# EAGLE library part TRINAMIC-TMC262 (library FlashPCB_ICs)
The TMC262 driver for two-phase stepper motors offers an industry-leading feature set, including high-resolution microstepping, sensorless mechanical load measurement, load-adaptive power optimization, and low-resonance chopper operation. Standard SPIÃƒÆ’Ã†â€™Ãƒâ€ Ã¢â‚¬â„¢ÃƒÆ’Ã¢â‚¬Â ÃƒÂ¢Ã¢â€šÂ¬Ã¢â€žÂ¢ÃƒÆ’Ã†â€™ÃƒÂ¢Ã¢â€šÂ¬Ã‚Â ÃƒÆ’Ã‚Â¢ÃƒÂ¢Ã¢â‚¬Å¡Ã‚Â¬ÃƒÂ¢Ã¢â‚¬Å¾Ã‚Â¢ÃƒÆ’Ã†â€™Ãƒâ€ Ã¢â‚¬â„¢ÃƒÆ’Ã‚Â¢ÃƒÂ¢Ã¢â‚¬Å¡Ã‚Â¬Ãƒâ€šÃ‚Â ÃƒÆ’Ã†â€™Ãƒâ€šÃ‚Â¢ÃƒÆ’Ã‚Â¢ÃƒÂ¢Ã¢â€šÂ¬Ã…Â¡Ãƒâ€šÃ‚Â¬ÃƒÆ’Ã‚Â¢ÃƒÂ¢Ã¢â€šÂ¬Ã…Â¾Ãƒâ€šÃ‚Â¢ÃƒÆ’Ã†â€™Ãƒâ€ Ã¢â‚¬â„¢ÃƒÆ’Ã¢â‚¬Â ÃƒÂ¢Ã¢â€šÂ¬Ã¢â€žÂ¢ÃƒÆ’Ã†â€™Ãƒâ€šÃ‚Â¢ÃƒÆ’Ã‚Â¢ÃƒÂ¢Ã¢â€šÂ¬Ã…Â¡Ãƒâ€šÃ‚Â¬ÃƒÆ’Ã¢â‚¬Â¦Ãƒâ€šÃ‚Â¡ÃƒÆ’Ã†â€™Ãƒâ€ Ã¢â‚¬â„¢ÃƒÆ’Ã‚Â¢ÃƒÂ¢Ã¢â‚¬Å¡Ã‚Â¬Ãƒâ€¦Ã‚Â¡ÃƒÆ’Ã†â€™ÃƒÂ¢Ã¢â€šÂ¬Ã…Â¡ÃƒÆ’Ã¢â‚¬Å¡Ãƒâ€šÃ‚Â¢ÃƒÆ’Ã†â€™Ãƒâ€ Ã¢â‚¬â„¢ÃƒÆ’Ã¢â‚¬Â ÃƒÂ¢Ã¢â€šÂ¬Ã¢â€žÂ¢ÃƒÆ’Ã†â€™ÃƒÂ¢Ã¢â€šÂ¬Ã‚Â ÃƒÆ’Ã‚Â¢ÃƒÂ¢Ã¢â‚¬Å¡Ã‚Â¬ÃƒÂ¢Ã¢â‚¬Å¾Ã‚Â¢ÃƒÆ’Ã†â€™Ãƒâ€ Ã¢â‚¬â„¢ÃƒÆ’Ã‚Â¢ÃƒÂ¢Ã¢â‚¬Å¡Ã‚Â¬Ãƒâ€¦Ã‚Â¡ÃƒÆ’Ã†â€™ÃƒÂ¢Ã¢â€šÂ¬Ã…Â¡ÃƒÆ’Ã¢â‚¬Å¡Ãƒâ€šÃ‚Â¢ÃƒÆ’Ã†â€™Ãƒâ€ Ã¢â‚¬â„¢ÃƒÆ’Ã¢â‚¬Â ÃƒÂ¢Ã¢â€šÂ¬Ã¢â€žÂ¢ÃƒÆ’Ã†â€™ÃƒÂ¢Ã¢â€šÂ¬Ã…Â¡ÃƒÆ’Ã¢â‚¬Å¡Ãƒâ€šÃ‚Â¢ÃƒÆ’Ã†â€™Ãƒâ€ Ã¢â‚¬â„¢ÃƒÆ’Ã¢â‚¬Å¡Ãƒâ€šÃ‚Â¢ÃƒÆ’Ã†â€™Ãƒâ€šÃ‚Â¢ÃƒÆ’Ã‚Â¢ÃƒÂ¢Ã¢â‚¬Å¡Ã‚Â¬Ãƒâ€¦Ã‚Â¡ÃƒÆ’Ã¢â‚¬Å¡Ãƒâ€šÃ‚Â¬ÃƒÆ’Ã†â€™ÃƒÂ¢Ã¢â€šÂ¬Ã‚Â¦ÃƒÆ’Ã¢â‚¬Å¡Ãƒâ€šÃ‚Â¡ÃƒÆ’Ã†â€™Ãƒâ€ Ã¢â‚¬â„¢ÃƒÆ’Ã‚Â¢ÃƒÂ¢Ã¢â‚¬Å¡Ã‚Â¬Ãƒâ€¦Ã‚Â¡ÃƒÆ’Ã†â€™ÃƒÂ¢Ã¢â€šÂ¬Ã…Â¡ÃƒÆ’Ã¢â‚¬Å¡Ãƒâ€šÃ‚Â¬ÃƒÆ’Ã†â€™Ãƒâ€ Ã¢â‚¬â„¢ÃƒÆ’Ã¢â‚¬Â ÃƒÂ¢Ã¢â€šÂ¬Ã¢â€žÂ¢ÃƒÆ’Ã†â€™Ãƒâ€šÃ‚Â¢ÃƒÆ’Ã‚Â¢ÃƒÂ¢Ã¢â€šÂ¬Ã…Â¡Ãƒâ€šÃ‚Â¬ÃƒÆ’Ã¢â‚¬Å¡Ãƒâ€šÃ‚Â¦ÃƒÆ’Ã†â€™Ãƒâ€ Ã¢â‚¬â„¢ÃƒÆ’Ã‚Â¢ÃƒÂ¢Ã¢â‚¬Å¡Ã‚Â¬Ãƒâ€¦Ã‚Â¡ÃƒÆ’Ã†â€™ÃƒÂ¢Ã¢â€šÂ¬Ã…Â¡ÃƒÆ’Ã¢â‚¬Å¡Ãƒâ€šÃ‚Â¾ÃƒÆ’Ã†â€™Ãƒâ€ Ã¢â‚¬â„¢ÃƒÆ’Ã¢â‚¬Â ÃƒÂ¢Ã¢â€šÂ¬Ã¢â€žÂ¢ÃƒÆ’Ã†â€™ÃƒÂ¢Ã¢â€šÂ¬Ã‚Â ÃƒÆ’Ã‚Â¢ÃƒÂ¢Ã¢â‚¬Å¡Ã‚Â¬ÃƒÂ¢Ã¢â‚¬Å¾Ã‚Â¢ÃƒÆ’Ã†â€™Ãƒâ€ Ã¢â‚¬â„¢ÃƒÆ’Ã¢â‚¬Å¡Ãƒâ€šÃ‚Â¢ÃƒÆ’Ã†â€™Ãƒâ€šÃ‚Â¢ÃƒÆ’Ã‚Â¢ÃƒÂ¢Ã¢â‚¬Å¡Ã‚Â¬Ãƒâ€¦Ã‚Â¡ÃƒÆ’Ã¢â‚¬Å¡Ãƒâ€šÃ‚Â¬ÃƒÆ’Ã†â€™ÃƒÂ¢Ã¢â€šÂ¬Ã‚Â¦ÃƒÆ’Ã¢â‚¬Å¡Ãƒâ€šÃ‚Â¡ÃƒÆ’Ã†â€™Ãƒâ€ Ã¢â‚¬â„¢ÃƒÆ’Ã¢â‚¬Â ÃƒÂ¢Ã¢â€šÂ¬Ã¢â€žÂ¢ÃƒÆ’Ã†â€™Ãƒâ€šÃ‚Â¢ÃƒÆ’Ã‚Â¢ÃƒÂ¢Ã¢â€šÂ¬Ã…Â¡Ãƒâ€šÃ‚Â¬ÃƒÆ’Ã¢â‚¬Â¦Ãƒâ€šÃ‚Â¡ÃƒÆ’Ã†â€™Ãƒâ€ Ã¢â‚¬â„¢ÃƒÆ’Ã‚Â¢ÃƒÂ¢Ã¢â‚¬Å¡Ã‚Â¬Ãƒâ€¦Ã‚Â¡ÃƒÆ’Ã†â€™ÃƒÂ¢Ã¢â€šÂ¬Ã…Â¡ÃƒÆ’Ã¢â‚¬Å¡Ãƒâ€šÃ‚Â¢ and STEP/DIR interfaces simplify communication. The TMC262 drives four external N- and Pchannel dual MOSFETs for motor currents up to 8A and up to 60V. Integrated protection and diagnostic features support robust and reliable operation. High integration, high energy efficiency and small form factor enable miniaturized designs with low external component count for cost-effective and highly competitive solutions.
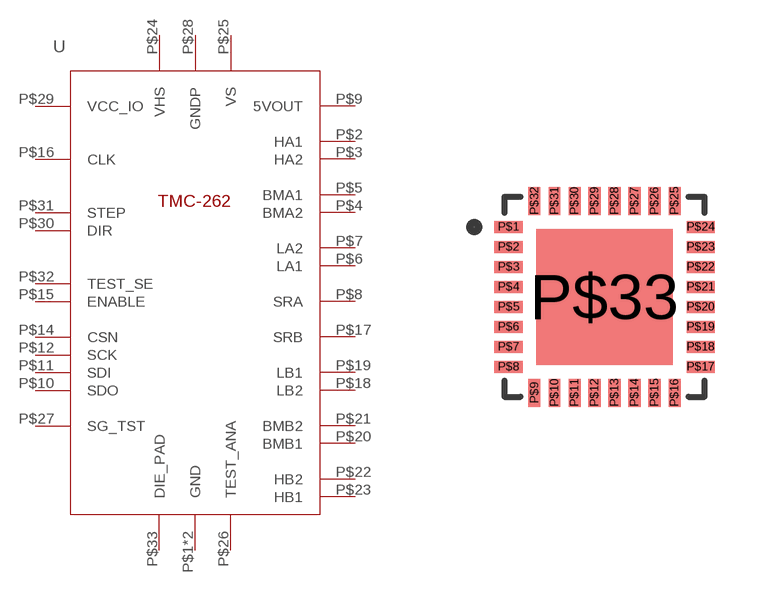
[diagram p87: symbol with the pads of TRINAMIC-QFN32-5X5; footprint TRINAMIC-QFN32-5X5]

Designator prefix -

## TRINAMIC-TMC262  [TRINAMIC-QFN32-5X5]
P$1  GND
P$2  HA1
P$3  HA2
P$4  BMA2
P$5  BMA1
P$6  LA1
P$7  LA2
P$8  SRA
P$9  5VOUT
P$10  SDO
P$11  SDI
P$12  SCK
P$13  GND
P$14  CSN
P$15  ENABLE
P$16  CLK
P$17  SRB
P$18  LB2
P$19  LB1
P$20  BMB1
P$21  BMB2
P$22  HB2
P$23  HB1
P$24  VHS
P$25  VS
P$26  TEST_ANA
P$27  SG_TST
P$28  GNDP
P$29  VCC_IO
P$30  DIR
P$31  STEP
P$32  TEST_SE
P$33  DIE_PAD

## Footprint TRINAMIC-QFN32-5X5 (pad centres in mm)
smd 0.7 x 0.3: P$1 -2.4,1.75; P$2 -2.4,1.25; P$3 -2.4,0.75; P$4 -2.4,0.25; P$5 -2.4,-0.25; P$6 -2.4,-0.75; P$7 -2.4,-1.25; P$8 -2.4,-1.75; P$17 2.4,-1.75; P$18 2.4,-1.25; P$19 2.4,-0.75; P$20 2.4,-0.25; P$21 2.4,0.25; P$22 2.4,0.75; P$23 2.4,1.25; P$24 2.4,1.75
smd 0.3 x 0.7: P$9 -1.75,-2.4; P$10 -1.25,-2.4; P$11 -0.75,-2.4; P$12 -0.25,-2.4; P$13 0.25,-2.4; P$14 0.75,-2.4; P$15 1.25,-2.4; P$16 1.75,-2.4; P$25 1.75,2.4; P$26 1.25,2.4; P$27 0.75,2.4; P$28 0.25,2.4; P$29 -0.25,2.4; P$30 -0.75,2.4; P$31 -1.25,2.4; P$32 -1.75,2.4
smd 3.4 x 3.4: P$33 0,0